# Altium schematic symbol library GRM31CR71H475KA12L.SchLib: 1 symbol
Pins are listed as number, name and electrical type; pins without a type are passive.

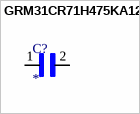
[diagram p0: symbol GRM31CR71H475KA12L]

## GRM31CR71H475KA12L
designator C?
Cap Ceramic 4.7uF 50V X7R 10% Pad SMD 1206 125C T/R; MF: {'manufacturer': u'Murata'}; MP: GRM31CR71H475KA12L; Value: *; Availability: Unavailable; Price: None; Package: None
footprint CAPC3216X180N
pins: 1, 2